# EAGLE library part NRF51228 (library BaseApp)
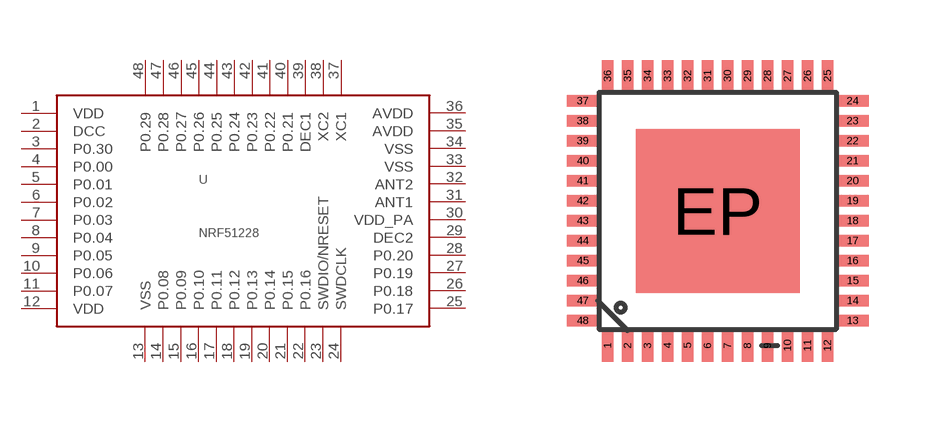
[diagram p108: symbol with the pads of 48QFN; footprint 48QFN]

Designator prefix -

## NRF51228  [48QFN]
1  VDD
2  DCC
3  P0.30
4  P0.00
5  P0.01
6  P0.02
7  P0.03
8  P0.04
9  P0.05
10  P0.06
11  P0.07
12  VDD
13  VSS
14  P0.08
15  P0.09
16  P0.10
17  P0.11
18  P0.12
19  P0.13
20  P0.14
21  P0.15
22  P0.16
23  SWDIO/NRESET
24  SWDCLK
25  P0.17
26  P0.18
27  P0.19
28  P0.20
29  DEC2
30  VDD_PA
31  ANT1
32  ANT2
33  VSS
34  VSS
35  AVDD
36  AVDD
37  XC1
38  XC2
39  DEC1
40  P0.21
41  P0.22
42  P0.23
43  P0.24
44  P0.25
45  P0.26
46  P0.27
47  P0.28
48  P0.29

## Footprint 48QFN (pad centres in mm)
smd 0.285 x 0.8: 1 -2.75,-3.375; 2 -2.25,-3.375; 3 -1.75,-3.375; 4 -1.25,-3.375; 5 -0.75,-3.375; 6 -0.25,-3.375; 7 0.25,-3.375; 8 0.75,-3.375; 9 1.25,-3.375; 10 1.75,-3.375; 11 2.25,-3.375; 12 2.75,-3.375; 25 2.75,3.375; 26 2.25,3.375; 27 1.75,3.375; 28 1.25,3.375; 29 0.75,3.375; 30 0.25,3.375; 31 -0.25,3.375; 32 -0.75,3.375; 33 -1.25,3.375; 34 -1.75,3.375; 35 -2.25,3.375; 36 -2.75,3.375
smd 0.8 x 0.285: 13 3.375,-2.75; 14 3.375,-2.25; 15 3.375,-1.75; 16 3.375,-1.25; 17 3.375,-0.75; 18 3.375,-0.25; 19 3.375,0.25; 20 3.375,0.75; 21 3.375,1.25; 22 3.375,1.75; 23 3.375,2.25; 24 3.375,2.75; 37 -3.375,2.75; 38 -3.375,2.25; 39 -3.375,1.75; 40 -3.375,1.25; 41 -3.375,0.75; 42 -3.375,0.25; 43 -3.375,-0.25; 44 -3.375,-0.75; 45 -3.375,-1.25; 46 -3.375,-1.75; 47 -3.375,-2.25; 48 -3.375,-2.75
smd 4.1 x 4.1: EP 0,0